# Altium footprint library wulpus_pro_acq.PcbLib: 62 footprints (part 4 of 4)
Each footprint in its own frame and in the unit in brackets; x right, y up, seen from the top. Pads: shape width x height; smd on the part's side, far side on the other; paste and mask are expansions set on the pad; w line width, h text height; cw(c..) or ccw(c..) is an arc to the next point about the centre after c.
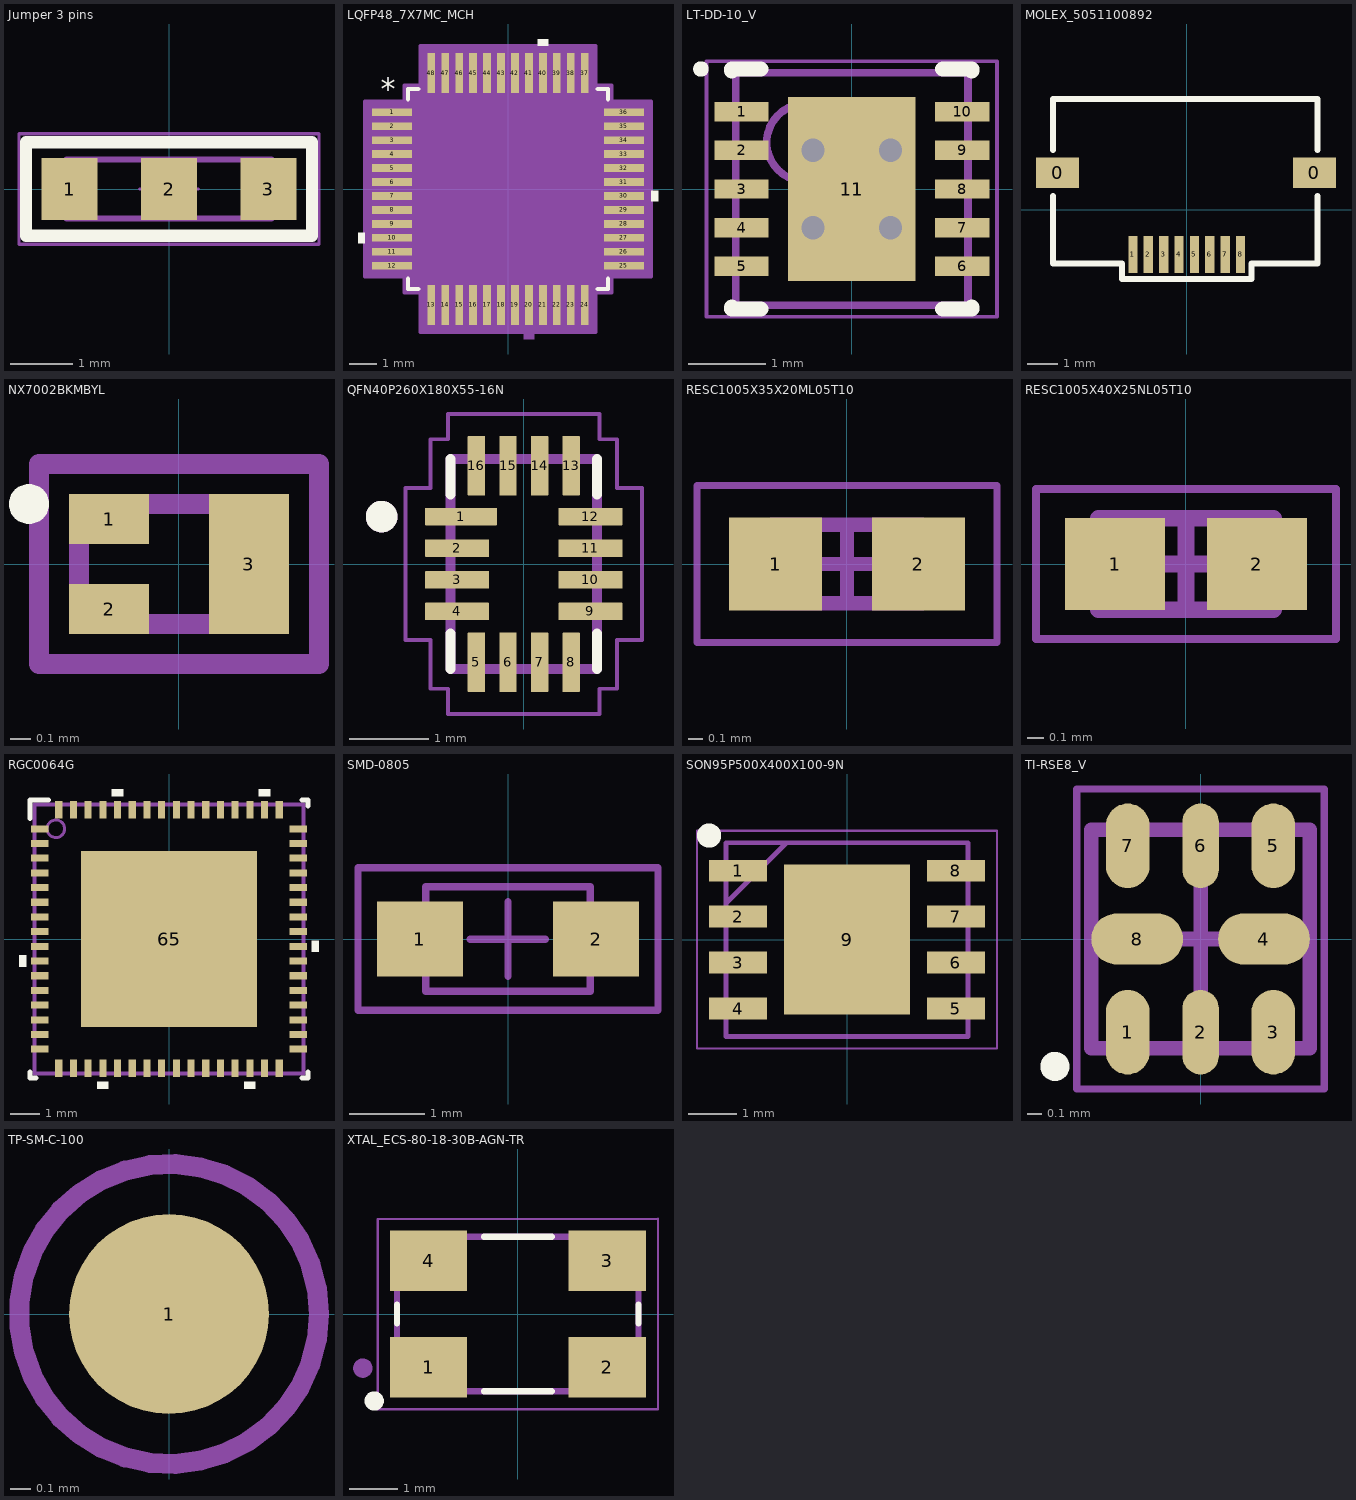
[diagram p3: the footprints below, top view; thin cyan lines are the x and y axes]

## Jumper 3 pins [mm]
pads (3):
  rect 0.9x1 smd: 1(-1.6,0) 2(0,0) 3(1.6,0)
Top Overlay:
  lines w0.2: 2.3,0.75 -2.3,0.75 -2.3,-0.75 2.3,-0.75 2.3,0.75 ; 2.3,0.75 2.3,0.75
Mechanical 12:
  lines w0.1: -1.65,-0.475 0.05,-0.475 0.05,0.475 -1.65,0.475 -1.65,-0.475 ; -0.05,-0.475 -0.05,0.475 1.65,0.475 1.65,-0.475 -0.05,-0.475
Top Courtyard:
  lines w0.05: -0.475,0 0.475,0 ; 0,-0.475 0,0.475 ; -2.413,-0.889 2.413,-0.889 2.413,0.889 -2.413,0.889 -2.413,-0.889
3D body: height 0.6, standoff 0, extent -0.219,-0.474 0.05,0.475
3D body: height 0.6, standoff 0, extent -1.38,-0.474 -0.219,0.475
3D body: height 0.6, standoff 0, extent -1.649,-0.474 -1.38,0.475
3D body: height 0.6, standoff 0, extent 1.38,-0.474 1.649,0.475
3D body: height 0.6, standoff 0, extent 0.219,-0.474 1.38,0.475
3D body: height 0.6, standoff 0, extent -0.05,-0.474 0.219,0.475

## LQFP48_7X7MC_MCH [mil]
pads (48):
  rect 57.56x11 smd paste+0 mask+0: 1(-166,110) 2(-166,90) 3(-166,70) 4(-166,50) 5(-166,30) 6(-166,10) 7(-166,-10) 8(-166,-30) 9(-166,-50) 10(-166,-70) 11(-166,-90) 12(-166,-110) 25(166,-110) 26(166,-90) 27(166,-70) 28(166,-50) 29(166,-30) 30(166,-10) 31(166,10) 32(166,30) 33(166,50) 34(166,70) 35(166,90) 36(166,110)
  rect 11x57.56 smd paste+0 mask+0: 13(-110,-166) 14(-90,-166) 15(-70,-166) 16(-50,-166) 17(-30,-166) 18(-10,-166) 19(10,-166) 20(30,-166) 21(50,-166) 22(70,-166) 23(90,-166) 24(110,-166) 37(110,166) 38(90,166) 39(70,166) 40(50,166) 41(30,166) 42(10,166) 43(-10,166) 44(-30,166) 45(-50,166) 46(-70,166) 47(-90,166) 48(-110,166)
Top Overlay:
  region: 57.5,204.78 42.5,204.78 42.5,214.78 57.5,214.78
  region: 204.78,-2.5 214.78,-2.5 214.78,-17.5 204.78,-17.5
  region: -204.78,-62.5 -214.78,-62.5 -214.78,-77.5 -204.78,-77.5
  lines w6: -143,-128.6 -143,-143 -128.6,-143 ; -143,128.6 -143,143 -128.6,143 ; 128.6,-143 143,-143 143,-128.6 ; 128.6,143 143,143 143,128.6
  text "*" at -182.09,127.95 h31.5
Mechanical 12:
  region: 37.5,-204.78 22.5,-204.78 22.5,-214.78 37.5,-214.78
Top 3D Body:
  drawing of 197 lines, arcs and shapes, not listed
  text "*" at -135.5,95 h31.5
Top Courtyard:
  region: -125.5,-148 -148,-148 -148,-125.5 -204.78,-125.5 -204.78,125.5 -148,125.5 -148,148 -125.5,148 -125.5,204.78 125.5,204.78 125.5,148 148,148 148,125.5 204.78,125.5 204.78,-125.5 148,-125.5 148,-148 125.5,-148 125.5,-204.78 -125.5,-204.78
  lines w6: -204.78,-125.5 -204.78,125.5 -148,125.5 -148,148 -125.5,148 -125.5,204.78 125.5,204.78 125.5,148 148,148 148,125.5 204.78,125.5 204.78,-125.5 148,-125.5 148,-148 125.5,-148 125.5,-204.78 -125.5,-204.78 -125.5,-148 -148,-148 -148,-125.5 -204.78,-125.5
3D body "LQFP48_7X7MC_MCH.step": height 63.11, standoff 0, extent -180.98,-180.98 180.98,180.98

## LT-DD-10_V [mm]
pads (11):
  rect 0.7x0.25 smd: 1(-1.425,1) 2(-1.425,0.5) 3(-1.425,0) 4(-1.425,-0.5) 5(-1.425,-1) 6(1.425,-1) 7(1.425,-0.5) 8(1.425,0) 9(1.425,0.5) 10(1.425,1)
  rect 1.65x2.38 smd: 11(0,0)
via 0.5,-0.5 diameter 0.45 hole 0.3
via -0.5,-0.5 diameter 0.45 hole 0.3
via 0.5,0.5 diameter 0.45 hole 0.3
via -0.5,0.5 diameter 0.45 hole 0.3
Top Overlay:
  circle w0.1: c-1.95,1.55 r0.05
  lines w0.2: -1.55,-1.525 -1.55,-1.55 -1.175,-1.55 ; -1.55,1.525 -1.55,1.55 -1.175,1.55 ; 1.175,-1.55 1.55,-1.55 1.55,-1.525 ; 1.175,1.55 1.55,1.55 1.55,1.525
Top 3D Body:
  circle w0.1: c-0.6,0.6 r0.5
  lines w0.1: -1.5,-1.5 1.5,-1.5 1.5,1.5 -1.5,1.5 -1.5,-1.5
Top Courtyard:
  lines w0.05: -1.875,-1.65 1.875,-1.65 1.875,1.65 -1.875,1.65 -1.875,-1.65
  lines w0.1: -0.5,0 0.5,0 ; 0,-0.5 0,0.5
3D body: height 0.8, standoff 0, extent -1.5,-1.5 1.5,1.5

## MOLEX_5051100892 [mm]
pads (10):
  rect 1.4x1 smd: 0(-4.2,1.2) 0(4.15,1.2)
  rect 0.3x1.2 smd: 1(-1.75,-1.45) 2(-1.25,-1.45) 3(-0.75,-1.45) 4(-0.25,-1.45) 5(0.25,-1.45) 6(0.75,-1.45) 7(1.25,-1.45) 8(1.75,-1.45)
Top Overlay:
  lines w0.2: -4.35,0.45 -4.35,-1.75 -2.1,-1.75 -2.1,-2.25 2.1,-2.25 2.1,-1.75 4.25,-1.75 4.25,0.45 ; -4.35,1.95 -4.35,3.6 4.25,3.6 4.25,1.95
3D body "5051100892.stp": height 1.88, standoff -0.02, extent -4.75,-1.65 4.75,3.65

## NX7002BKMBYL [mm]
pads (3):
  rect 0.4x0.25 smd: 1(-0.35,0.225) 2(-0.35,-0.225)
  rect 0.4x0.7 smd: 3(0.35,0)
Top Overlay:
  lines w0.1: -0.8,0.3 ccw(c-0.75,0.3) -0.7,0.3 ccw(c-0.75,0.3) -0.8,0.3
Top 3D Body:
  lines w0.1: -0.5,-0.3 0.5,-0.3 0.5,0.3 -0.5,0.3 -0.5,-0.3
Top Courtyard:
  lines w0.1: -0.7,-0.5 0.7,-0.5 0.7,0.5 -0.7,0.5 -0.7,-0.5
3D body "NX7002BKMBYL.stp": height 0.37, standoff 0, extent -0.502,-0.299 0.498,0.301

## QFN40P260X180X55-16N [mm]
pads (16):
  rrect6% 0.91x0.22 smd: 1(-0.795,0.6)
  rrect6% 0.81x0.22 smd: 2(-0.845,0.2) 3(-0.845,-0.2) 4(-0.845,-0.6) 9(0.845,-0.6) 10(0.845,-0.2) 11(0.845,0.2) 12(0.845,0.6)
  rrect6% 0.22x0.75 smd: 5(-0.6,-1.245) 6(-0.2,-1.245) 7(0.2,-1.245) 8(0.6,-1.245) 13(0.6,1.245) 14(0.2,1.245) 15(-0.2,1.245) 16(-0.6,1.245)
Top Overlay:
  circle w0.2: c-1.8,0.6 r0.1
  lines w0.127: -0.93,-1.33 -0.93,-0.88 ; -0.93,0.88 -0.93,1.33 ; 0.93,-1.33 0.93,-0.88 ; 0.93,0.88 0.93,1.33
Top 3D Body:
  circle w0.2: c-1.8,0.6 r0.1
  lines w0.127: -0.93,-1.33 0.93,-1.33 0.93,1.33 -0.93,1.33 -0.93,-1.33
Top Courtyard:
  lines w0.05: -1.5,-0.96 -1.18,-0.96 -1.18,-1.58 -0.96,-1.58 -0.96,-1.9 0.96,-1.9 0.96,-1.58 1.18,-1.58 1.18,-0.96 1.5,-0.96 1.5,0.96 1.18,0.96 1.18,1.58 0.96,1.58 0.96,1.9 -0.96,1.9 -0.96,1.58 -1.18,1.58 -1.18,0.96 -1.5,0.96 -1.5,-0.96

## RESC1005X35X20ML05T10 [mm]
pads (2):
  rect 0.65x0.65 smd: 1(-0.5,0) 2(0.5,0)
Top 3D Body:
  lines w0.1: -0.525,-0.275 -0.525,0.275 0.525,0.275 0.525,-0.275 -0.525,-0.275
Top Courtyard:
  lines w0.05: -1.05,-0.55 -1.05,0.55 1.05,0.55 1.05,-0.55 -1.05,-0.55
  lines w0.1: -0.275,0 0.275,0 ; 0,-0.275 0,0.275
3D body: height 0.35, standoff 0, extent -0.325,-0.275 0.325,0.275
3D body: height 0.35, standoff 0, extent -0.525,-0.275 -0.325,0.275
3D body: height 0.35, standoff 0, extent 0.325,-0.275 0.525,0.275

## RESC1005X40X25NL05T10 [mm]
pads (2):
  rect 0.6x0.55 smd: 1(-0.425,0) 2(0.425,0)
Top 3D Body:
  lines w0.1: -0.525,-0.275 0.525,-0.275 0.525,0.275 -0.525,0.275 -0.525,-0.275
Top Courtyard:
  lines w0.05: -0.9,-0.45 0.9,-0.45 0.9,0.45 -0.9,0.45 -0.9,-0.45
  lines w0.1: -0.275,0 0.275,0 ; 0,-0.275 0,0.275
3D body: height 0.4, standoff 0, extent 0.275,-0.275 0.525,0.275
3D body: height 0.4, standoff 0, extent -0.525,-0.275 -0.275,0.275
3D body: height 0.4, standoff 0, extent -0.275,-0.275 0.275,0.275

## RGC0064G [mm]
pads (65):
  rect 0.6x0.24 smd paste+0 mask+0: 1(-4.4,3.75) 2(-4.4,3.25) 3(-4.4,2.75) 4(-4.4,2.25) 5(-4.4,1.75) 6(-4.4,1.25) 7(-4.4,0.75) 8(-4.4,0.25) 9(-4.4,-0.25) 10(-4.4,-0.75) 11(-4.4,-1.25) 12(-4.4,-1.75) 13(-4.4,-2.25) 14(-4.4,-2.75) 15(-4.4,-3.25) 16(-4.4,-3.75) 33(4.4,-3.75) 34(4.4,-3.25) 35(4.4,-2.75) 36(4.4,-2.25) 37(4.4,-1.75) 38(4.4,-1.25) 39(4.4,-0.75) 40(4.4,-0.25) 41(4.4,0.25) 42(4.4,0.75) 43(4.4,1.25) 44(4.4,1.75) 45(4.4,2.25) 46(4.4,2.75) 47(4.4,3.25) 48(4.4,3.75)
  rect 0.24x0.6 smd paste+0 mask+0: 17(-3.751,-4.4) 18(-3.251,-4.4) 19(-2.751,-4.4) 20(-2.251,-4.4) 21(-1.75,-4.4) 22(-1.25,-4.4) 23(-0.75,-4.4) 24(-0.25,-4.4) 25(0.25,-4.4) 26(0.75,-4.4) 27(1.25,-4.4) 28(1.75,-4.4) 29(2.251,-4.4) 30(2.751,-4.4) 31(3.251,-4.4) 32(3.751,-4.4) 49(3.751,4.4) 50(3.251,4.4) 51(2.751,4.4) 52(2.251,4.4) 53(1.75,4.4) 54(1.25,4.4) 55(0.75,4.4) 56(0.25,4.4) 57(-0.25,4.4) 58(-0.75,4.4) 59(-1.25,4.4) 60(-1.75,4.4) 61(-2.251,4.4) 62(-2.751,4.4) 63(-3.251,4.4) 64(-3.751,4.4)
  rect 6x6 smd paste-3 mask+0: 65(0,0)
Top Overlay:
  region: -4.849,-0.941 -4.849,-0.56 -5.103,-0.56 -5.103,-0.941
  region: -2.06,-5.103 -2.06,-4.849 -2.441,-4.849 -2.441,-5.103
  region: 2.941,-5.103 2.941,-4.849 2.56,-4.849 2.56,-5.103
  region: 4.849,-0.44 4.849,-0.059 5.103,-0.059 5.103,-0.44
  region: 3.441,5.103 3.441,4.849 3.06,4.849 3.06,5.103
  region: -1.56,5.103 -1.56,4.849 -1.941,4.849 -1.941,5.103
  lines w0.178: -4.725,-4.525 -4.725,-4.725 -4.525,-4.725 ; -4.725,4.096 -4.725,4.725 -4.097,4.725 ; 4.525,-4.725 4.725,-4.725 4.725,-4.525 ; 4.525,4.725 4.725,4.725 4.725,4.525
Top Paste:
  region: -0.48,0.48 -0.48,-0.48 0.48,-0.48 0.48,0.48
  region: -1.64,0.48 -1.64,-0.48 -0.68,-0.48 -0.68,0.48
  region: 0.68,0.48 0.68,-0.48 1.64,-0.48 1.64,0.48
  region: -2.8,0.48 -2.8,-0.48 -1.84,-0.48 -1.84,0.48
  region: -2.8,1.64 -2.8,0.68 -1.84,0.68 -1.84,1.64
  region: -1.64,1.64 -1.64,0.68 -0.68,0.68 -0.68,1.64
  region: -0.48,1.64 -0.48,0.68 0.48,0.68 0.48,1.64
  region: -2.8,2.8 -2.8,1.84 -1.84,1.84 -1.84,2.8
  region: -1.64,2.8 -1.64,1.84 -0.68,1.84 -0.68,2.8
  region: -0.48,2.8 -0.48,1.84 0.48,1.84 0.48,2.8
  region: 0.68,2.8 0.68,1.84 1.64,1.84 1.64,2.8
  region: 1.84,2.8 1.84,1.84 2.8,1.84 2.8,2.8
  region: 0.68,1.64 0.68,0.68 1.64,0.68 1.64,1.64
  region: 1.84,1.64 1.84,0.68 2.8,0.68 2.8,1.64
  region: 1.84,0.48 1.84,-0.48 2.8,-0.48 2.8,0.48
  region: -0.48,-0.68 -0.48,-1.64 0.48,-1.64 0.48,-0.68
  region: -1.64,-0.68 -1.64,-1.64 -0.68,-1.64 -0.68,-0.68
  region: -2.8,-0.68 -2.8,-1.64 -1.84,-1.64 -1.84,-0.68
  region: -2.8,-1.84 -2.8,-2.8 -1.84,-2.8 -1.84,-1.84
  region: -1.64,-1.84 -1.64,-2.8 -0.68,-2.8 -0.68,-1.84
  region: 0.68,-0.68 0.68,-1.64 1.64,-1.64 1.64,-0.68
  region: 1.84,-0.68 1.84,-1.64 2.8,-1.64 2.8,-0.68
  region: -0.48,-1.84 -0.48,-2.8 0.48,-2.8 0.48,-1.84
  region: 0.68,-1.84 0.68,-2.8 1.64,-2.8 1.64,-1.84
  region: 1.84,-1.84 1.84,-2.8 2.8,-2.8 2.8,-1.84
Top 3D Body:
  circle w0.1: c-3.85,3.75 r0.3
  lines w0.127: -4.575,-4.575 4.575,-4.575 4.575,4.575 -4.575,4.575 -4.575,-4.575 ; -4.575,-3.9 -4.575,-3.6 -4.575,-3.9 ; -4.575,-3.4 -4.575,-3.1 -4.575,-3.4 ; -4.575,-2.9 -4.575,-2.6 -4.575,-2.9 ; -4.575,-2.4 -4.575,-2.1 -4.575,-2.4 ; -4.575,-1.9 -4.575,-1.6 -4.575,-1.9 ; -4.575,-1.4 -4.575,-1.1 -4.575,-1.4 ; -4.575,-0.9 -4.575,-0.6 -4.575,-0.9 ; -4.575,-0.4 -4.575,-0.1 -4.575,-0.4 ; -4.575,0.1 -4.575,0.4 -4.575,0.1 ; -4.575,0.6 -4.575,0.9 -4.575,0.6 ; -4.575,1.1 -4.575,1.4 -4.575,1.1 ; -4.575,1.6 -4.575,1.9 -4.575,1.6 ; -4.575,2.1 -4.575,2.4 -4.575,2.1 ; -4.575,2.6 -4.575,2.9 -4.575,2.6 ; -4.575,3.1 -4.575,3.4 -4.575,3.1 ; -4.575,3.6 -4.575,3.9 -4.575,3.6 ; -3.9,-4.575 -3.6,-4.575 -3.9,-4.575 ; -3.9,4.575 -3.6,4.575 -3.9,4.575 ; -3.4,-4.575 -3.1,-4.575 -3.4,-4.575 ; -3.4,4.575 -3.1,4.575 -3.4,4.575 ; -2.9,-4.575 -2.6,-4.575 -2.9,-4.575 ; -2.9,4.575 -2.6,4.575 -2.9,4.575 ; -2.4,-4.575 -2.1,-4.575 -2.4,-4.575 ; -2.4,4.575 -2.1,4.575 -2.4,4.575 ; -1.9,-4.575 -1.6,-4.575 -1.9,-4.575 ; -1.9,4.575 -1.6,4.575 -1.9,4.575 ; -1.4,-4.575 -1.1,-4.575 -1.4,-4.575 ; -1.4,4.575 -1.1,4.575 -1.4,4.575 ; -0.9,-4.575 -0.6,-4.575 -0.9,-4.575 ; -0.9,4.575 -0.6,4.575 -0.9,4.575 ; -0.4,-4.575 -0.1,-4.575 -0.4,-4.575 ; -0.4,4.575 -0.1,4.575 -0.4,4.575 ; 0.1,-4.575 0.4,-4.575 0.1,-4.575 ; 0.1,4.575 0.4,4.575 0.1,4.575 ; 0.6,-4.575 0.9,-4.575 0.6,-4.575 ; 0.6,4.575 0.9,4.575 0.6,4.575 ; 1.1,-4.575 1.4,-4.575 1.1,-4.575 ; 1.1,4.575 1.4,4.575 1.1,4.575 ; 1.6,-4.575 1.9,-4.575 1.6,-4.575 ; 1.6,4.575 1.9,4.575 1.6,4.575 ; 2.1,-4.575 2.4,-4.575 2.1,-4.575 ; 2.1,4.575 2.4,4.575 2.1,4.575 ; 2.6,-4.575 2.9,-4.575 2.6,-4.575 ; 2.6,4.575 2.9,4.575 2.6,4.575 ; 3.1,-4.575 3.4,-4.575 3.1,-4.575 ; 3.1,4.575 3.4,4.575 3.1,4.575 ; 3.6,-4.575 3.9,-4.575 3.6,-4.575 ; 3.6,4.575 3.9,4.575 3.6,4.575 ; 4.575,-3.9 4.575,-3.6 4.575,-3.9 ; 4.575,-3.4 4.575,-3.1 4.575,-3.4 ; 4.575,-2.9 4.575,-2.6 4.575,-2.9 ; 4.575,-2.4 4.575,-2.1 4.575,-2.4 ; 4.575,-1.9 4.575,-1.6 4.575,-1.9 ; 4.575,-1.4 4.575,-1.1 4.575,-1.4 ; 4.575,-0.9 4.575,-0.6 4.575,-0.9 ; 4.575,-0.4 4.575,-0.1 4.575,-0.4 ; 4.575,0.1 4.575,0.4 4.575,0.1 ; 4.575,0.6 4.575,0.9 4.575,0.6 ; 4.575,1.1 4.575,1.4 4.575,1.1 ; 4.575,1.6 4.575,1.9 4.575,1.6 ; 4.575,2.1 4.575,2.4 4.575,2.1 ; 4.575,2.6 4.575,2.9 4.575,2.6 ; 4.575,3.1 4.575,3.4 4.575,3.1 ; 4.575,3.6 4.575,3.9 4.575,3.6
  text ".Designator" at -1.85,-1.135 h1.27
3D body "RGC0064B.stp": height 1, standoff 0, extent -4.5,-4.5 4.5,4.5
3D body: height 0.25, standoff 0, extent 0,0 0.254,0.254

## SMD-0805 [mm]
pads (2):
  rect 1.15x1 smd: 1(-1.175,0) 2(1.175,0)
Top 3D Body:
  lines w0.1: -1.1,-0.7 1.1,-0.7 1.1,0.7 -1.1,0.7 -1.1,-0.7
Top Courtyard:
  lines w0.1: -0.5,0 0.5,0 ; 0,-0.5 0,0.5 ; -2,-0.95 2,-0.95 2,0.95 -2,0.95 -2,-0.95
3D body "74279201.stp": height 0.89, standoff -0.01, extent -1,-0.6 1,0.6

## SON95P500X400X100-9N [mm]
pads (9):
  rect 1.2x0.45 smd: 1(-2.25,1.425) 2(-2.25,0.475) 3(-2.25,-0.475) 4(-2.25,-1.425) 5(2.25,-1.425) 6(2.25,-0.475) 7(2.25,0.475) 8(2.25,1.425)
  rect 2.6x3.1 smd: 9(0,0)
Top Overlay:
  circle w0.25: c-2.85,2.15 r0.125
Top 3D Body:
  lines w0.1: -2.5,0.75 -1.25,2 ; -2.5,-2 -2.5,2 2.5,2 2.5,-2 -2.5,-2
Top Courtyard:
  lines w0.05: -3.1,-2.25 -3.1,2.25 3.1,2.25 3.1,-2.25 -3.1,-2.25
3D body "IXDD604D2TR.stp": height 1, standoff 0, extent -2.55,-2 2.55,2

## TI-RSE8_V [mm]
pads (8):
  oval 0.3x0.58 smd: 1(-0.5,-0.64) 3(0.5,-0.64) 5(0.5,0.64) 7(-0.5,0.64)
  oval 0.25x0.58 smd: 2(0,-0.64) 6(0,0.64)
  oval 0.63x0.35 smd: 4(0.435,0) 8(-0.435,0)
Top Overlay:
  circle w0.1: c-1,-0.875 r0.05
Top 3D Body:
  lines w0.1: -0.75,-0.75 0.75,-0.75 0.75,0.75 -0.75,0.75 -0.75,-0.75
Top Courtyard:
  lines w0.05: -0.85,-1.03 -0.85,1.03 0.85,1.03 0.85,-1.03 -0.85,-1.03
  lines w0.1: -0.5,0 0.5,0 ; 0,-0.5 0,0.5
3D body: height 0.6, standoff 0, extent -0.75,-0.75 0.75,0.75

## TP-SM-C-100 [mm]
pads (1):
  round 1 smd: 1(0,0)
Top Courtyard:
  circle w0.1: c0,0 r0.75

## XTAL_ECS-80-18-30B-AGN-TR [mm]
pads (4):
  rect 1.6x1.25 smd: 1(-1.85,-1.1) 2(1.85,-1.1) 3(1.85,1.1) 4(-1.85,1.1)
Top Overlay:
  circle w0.2: c-2.975,-1.8 r0.1
  lines w0.127: -2.5,-0.2 -2.5,0.2 ; -0.7,-1.6 0.7,-1.6 ; -0.7,1.6 0.7,1.6 ; 2.5,-0.2 2.5,0.2
Top 3D Body:
  circle w0.2: c-3.21,-1.12 r0.1
  lines w0.127: -2.5,-1.6 -2.5,1.6 2.5,1.6 2.5,-1.6 -2.5,-1.6
Top Courtyard:
  lines w0.05: -2.9,-1.975 -2.9,1.96 2.9,1.975 2.9,-1.975 -2.9,-1.975
3D body "ECS-80-18-30B-AGN-TR.STEP": height 0.86, standoff 0.01, extent -2.5,-1.6 2.5,1.6